# Altium integrated library FA-128_32.0000MF20X-K5.IntLib: 1 symbol
Pins are listed as number, name and electrical type; pins without a type are passive.

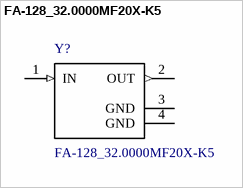
[diagram p0: symbol FA-128_32.0000MF20X-K5]

## FA-128_32.0000MF20X-K5
designator Y?
/ Crystal 32MHz Â±10ppm _Tol_ Â±20ppm _Stability_ 10pF FUND 60Ohm 4-Pin Mini-SMD /; MF: EPSON; MP: FA-128 32.0000MF20X-K5; Package: SMD-4 Epson; Digi-Key_Part_Number: SER4079CT-ND; Digi-Key_Purchase_URL: https://www.digikey.com/product-detail/en/epson/FA-128-32.0000MF20X-K5/SER4079CT-ND/5994864?utm_source=snapeda&utm_medium=aggregator&utm_campaign=symbol; SnapEDA_Link: https://www.snapeda.com/parts/FA-128%2032.0000MF20X-K5/EPSON/view-part/?ref=snap; Value: *
footprint *OSCCC200X160X50N
pins: 1 IN (in), 2 OUT (out), 3 GND (power), 4 GND (power)